# Altium footprint library PCB Library.PcbLib: 9 footprints
Each footprint in its own frame and in the unit in brackets; x right, y up, seen from the top. Pads: shape width x height; smd on the part's side, far side on the other; paste and mask are expansions set on the pad; w line width, h text height; cw(c..) or ccw(c..) is an arc to the next point about the centre after c.
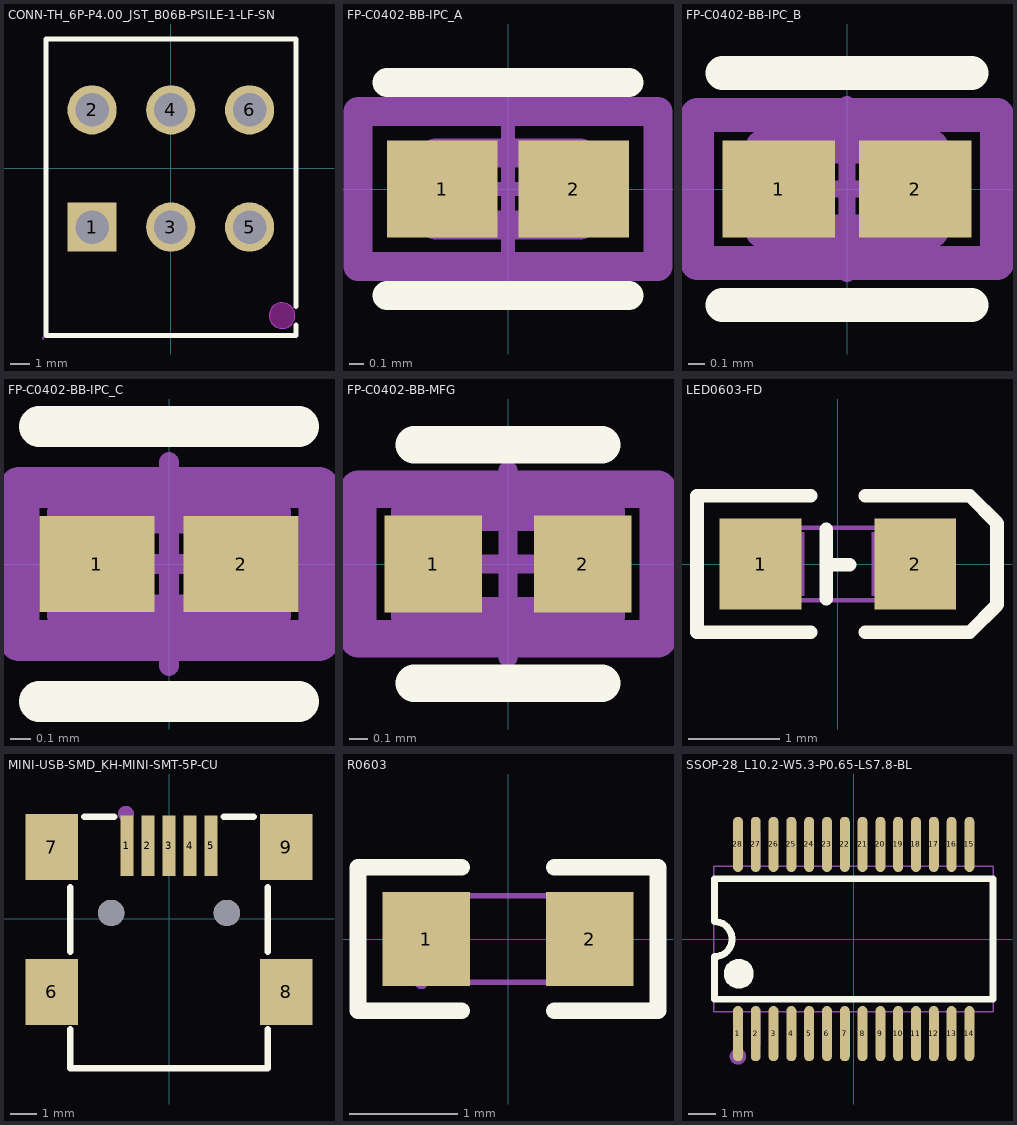
[diagram p0: the footprints below, top view; thin cyan lines are the x and y axes]

## CONN-TH_6P-P4.00_JST_B06B-PSILE-1-LF-SN [mm]
pads (6):
  rect 2.5x2.5 hole 1.7 paste-2539.97 mask+0.05: 1(-4,-2.975)
  round 2.5 hole 1.7 paste-2539.97 mask+0.05: 2(-4,2.975) 3(0,-2.975) 4(0,2.975) 5(4,-2.975) 6(4,2.975)
Top Overlay:
  lines w0.254: 6.35,-7.943 6.35,-8.475 -6.35,-8.475 -6.35,6.575 6.35,6.575 6.35,-7.007
Keep-Out Layer:
  board cut-out: 6.3,-7.475 6.3,-7.561 6.256,-7.726 6.17,-7.874 6.049,-7.995 5.901,-8.081 5.736,-8.125 5.564,-8.125 5.399,-8.081 5.251,-7.995 5.13,-7.874 5.044,-7.726 5,-7.561 5,-7.475 5,-7.39 5.044,-7.224 5.13,-7.076 5.251,-6.955 5.399,-6.869 5.564,-6.825 5.736,-6.825 5.901,-6.869 6.049,-6.955 6.17,-7.076 6.256,-7.224 6.3,-7.39 6.3,-7.475
Keep-Out Layer:
  circle w0.025: c5.65,-7.475 r0.65
  region: 6.3,-7.475 6.3,-7.561 6.256,-7.726 6.17,-7.874 6.049,-7.995 5.901,-8.081 5.736,-8.125 5.564,-8.125 5.399,-8.081 5.251,-7.995 5.13,-7.874 5.044,-7.726 5,-7.561 5,-7.475 5,-7.39 5.044,-7.224 5.13,-7.076 5.251,-6.955 5.399,-6.869 5.564,-6.825 5.736,-6.825 5.901,-6.869 6.049,-6.955 6.17,-7.076 6.256,-7.224 6.3,-7.39 6.3,-7.475
Mechanical 1:
  circle w0.025: c5.65,-7.475 r0.65
Mechanical 15:
  drawing of 7 lines, arcs and shapes, not listed

## FP-C0402-BB-IPC_A [mm]
pads (2):
  rect 0.765x0.672 smd paste+0 mask+0: 1(-0.454,0) 2(0.454,0)
Top Overlay:
  lines w0.2: -0.836,-0.736 0.836,-0.736 ; -0.836,0.736 0.836,0.736
Top Courtyard:
  lines w0.2: -1.036,-0.536 -1.036,0.536 1.036,0.536 1.036,-0.536 -1.036,-0.536
Top Assembly:
  lines w0.2: -1.036,-0.536 -1.036,0.536 1.036,0.536 1.036,-0.536 -1.036,-0.536
  text ".Designator" at 0,0.188 h1
Top 3D Body:
  lines w0.2: -0.5,-0.25 -0.5,0.25 0.5,0.25 0.5,-0.25 -0.5,-0.25
Top Component Center:
  lines w0.1: -0.5,0 0.5,0 ; 0,-0.5 0,0.5
3D body "Cap_Kemet_C0402C562J5RACTU_eec.STEP": height 0.25, standoff 0, extent -1.036,-0.536 1.036,0.536

## FP-C0402-BB-IPC_B [mm]
pads (2):
  rect 0.665x0.572 smd paste+0 mask+0: 1(-0.404,0) 2(0.404,0)
Top Overlay:
  lines w0.2: -0.736,-0.686 0.736,-0.686 ; -0.736,0.686 0.736,0.686
Top Courtyard:
  lines w0.2: -0.886,-0.436 0.886,-0.436 0.886,0.436 -0.886,0.436 -0.886,-0.436
Top Assembly:
  lines w0.2: -0.886,-0.436 0.886,-0.436 0.886,0.436 -0.886,0.436 -0.886,-0.436
  text ".Designator" at 0,0.188 h1
Top 3D Body:
  lines w0.2: -0.5,-0.25 0.5,-0.25 0.5,0.25 -0.5,0.25 -0.5,-0.25
Top Component Center:
  lines w0.1: -0.5,0 0.5,0 ; 0,-0.5 0,0.5
3D body "Cap_Kemet_C0402C562J5RACTU_eec.STEP": height 0.25, standoff 0, extent -0.886,-0.436 0.886,0.436

## FP-C0402-BB-IPC_C [mm]
pads (2):
  rect 0.565x0.472 smd paste+0 mask+0: 1(-0.354,0) 2(0.354,0)
Top Overlay:
  lines w0.2: -0.636,-0.675 0.636,-0.675 ; -0.636,0.675 0.636,0.675
Top Courtyard:
  lines w0.2: -0.736,-0.375 0.736,-0.375 0.736,0.375 -0.736,0.375 -0.736,-0.375
Top Assembly:
  lines w0.2: -0.736,-0.375 0.736,-0.375 0.736,0.375 -0.736,0.375 -0.736,-0.375
  text ".Designator" at 0,0.188 h1
Top 3D Body:
  lines w0.2: -0.5,-0.25 0.5,-0.25 0.5,0.25 -0.5,0.25 -0.5,-0.25
Top Component Center:
  lines w0.1: -0.5,0 0.5,0 ; 0,-0.5 0,0.5
3D body "Cap_Kemet_C0402C562J5RACTU_eec.STEP": height 0.25, standoff 0, extent -0.736,-0.375 0.736,0.375

## FP-C0402-BB-MFG [mm]
pads (2):
  rect 0.52x0.52 smd paste+0 mask+0: 1(-0.4,0) 2(0.4,0)
Top Overlay:
  lines w0.2: -0.5,-0.635 0.5,-0.635 ; -0.5,0.635 0.5,0.635
Top Courtyard:
  lines w0.2: -0.8,-0.4 -0.8,0.4 0.8,0.4 0.8,-0.4 -0.8,-0.4
Top Assembly:
  lines w0.2: -0.8,-0.4 -0.8,0.4 0.8,0.4 0.8,-0.4 -0.8,-0.4
  text ".Designator" at 0,0.188 h1
Top 3D Body:
  lines w0.2: -0.525,-0.275 -0.525,0.275 0.525,0.275 0.525,-0.275 -0.525,-0.275
Top Component Center:
  lines w0.1: -0.5,0 0.5,0 ; 0,-0.5 0,0.5
3D body "Cap_Kemet_C0402C562J5RACTU_eec.STEP": height 0.25, standoff 0, extent -0.8,-0.4 0.8,0.4

## LED0603-FD [mm]
pads (2):
  rect 0.9x1 smd: 1(-0.85,0) 2(0.85,0)
Top Overlay:
  lines w0.15: -1.55,-0.75 -0.3,-0.75 ; -1.55,-0.75 -1.55,0.73 ; -1.55,0.75 -0.3,0.75 ; -0.127,-0.381 -0.127,0.381 ; -0.127,-0.006 0.127,-0.006 ; 0.3,-0.75 1.45,-0.75 1.75,-0.45 1.75,-0.35 1.75,0.35 1.75,0.45 1.45,0.75 0.3,0.75
Mechanical 6:
  region: -1.1,0.1 -0.5,0.1 -0.5,-0.05 -1.1,-0.05
  region: 0.6,0.1 1.2,0.1 1.2,-0.05 0.6,-0.05
  region: -0.865,-0.273 -0.865,0.327 -0.715,0.327 -0.715,-0.273
Mechanical 15:
  region: -0.74,-0.4 -0.74,-0.425 -0.775,-0.46 -0.825,-0.46 -0.86,-0.425 -0.86,-0.4 -0.86,-0.375 -0.825,-0.34 -0.775,-0.34 -0.74,-0.375 -0.74,-0.4
  region: -0.8,-0.35 -0.8,0.35 -0.37,0.35 -0.37,-0.35
  region: 0.37,-0.35 0.37,0.35 0.8,0.35 0.8,-0.35
  lines w0.051: -0.8,-0.4 0.8,-0.4 0.8,0.4 -0.8,0.4 -0.8,-0.4

## MINI-USB-SMD_KH-MINI-SMT-5P-CU [mm]
pads (11):
  rect 0.5x2.3 smd paste+0 mask+0.05: 1(-1.6,2.775) 2(-0.8,2.775) 3(0,2.775) 4(0.8,2.775) 5(1.6,2.775)
  rect 2x2.5 smd paste+0 mask+0.05: 6(-4.45,-2.775) 7(-4.45,2.725) 8(4.45,-2.775) 9(4.45,2.725)
  round 1 hole 1 unplated paste-2539.97: ""(-2.2,0.225) ""(2.2,0.225)
Top Overlay:
  lines w0.254: -3.75,-4.206 -3.75,-5.675 3.75,-5.675 3.75,-4.206 ; -3.75,-1.244 -3.75,1.194 ; -3.219,3.885 -2.081,3.885 ; 2.081,3.885 3.219,3.885 ; 3.75,-1.244 3.75,1.194
Mechanical 15:
  circle w0.3: c-1.635,3.992 r0.15
  circle w0.4: c2.2,0.225 r0.2
  circle w0.4: c-2.2,0.225 r0.2

## R0603 [mm]
pads (2):
  rect 0.806x0.864 smd paste-100 mask+0.051: 1(-0.753,0) 2(0.753,0)
Top Overlay:
  lines w0.152: -0.426,-0.661 -1.385,-0.661 -1.385,0.661 -0.426,0.661 ; 0.426,-0.661 1.385,-0.661 1.385,0.661 0.426,0.661
Top Paste:
  region: -1.195,-0.45 -0.395,-0.45 -0.345,-0.4 -0.345,-0.172 -0.715,-0.172 -0.715,0.158 -0.345,0.158 -0.345,0.4 -0.395,0.45 -1.195,0.45 -1.245,0.4 -1.245,-0.4
  region: 1.195,0.45 0.395,0.45 0.345,0.4 0.345,0.172 0.715,0.172 0.715,-0.158 0.345,-0.158 0.345,-0.4 0.395,-0.45 1.195,-0.45 1.245,-0.4 1.245,0.4
Mechanical 15:
  region: 0.8,-0.4 0.8,0.4 0.5,0.4 0.5,-0.4
  region: -0.8,-0.4 -0.8,0.4 -0.5,0.4 -0.5,-0.4
  region: -0.74,-0.4 -0.74,-0.425 -0.775,-0.46 -0.825,-0.46 -0.86,-0.425 -0.86,-0.4 -0.86,-0.375 -0.825,-0.34 -0.775,-0.34 -0.74,-0.375 -0.74,-0.4
  lines w0.051: -0.8,-0.4 0.8,-0.4 0.8,0.4 -0.8,0.4 -0.8,-0.4

## SSOP-28_L10.2-W5.3-P0.65-LS7.8-BL [mm]
pads (28):
  oval 0.364x2.015 smd: 1(-4.225,-3.455) 2(-3.575,-3.455) 3(-2.925,-3.455) 4(-2.275,-3.455) 5(-1.625,-3.455) 6(-0.975,-3.455) 7(-0.325,-3.455) 8(0.325,-3.455) 9(0.975,-3.455) 10(1.625,-3.455) 11(2.275,-3.455) 12(2.925,-3.455) 13(3.575,-3.455) 14(4.225,-3.455) 15(4.225,3.455) 16(3.575,3.455) 17(2.925,3.455) 18(2.275,3.455) 19(1.625,3.455) 20(0.975,3.455) 21(0.325,3.455) 22(-0.325,3.455) 23(-0.975,3.455) 24(-1.625,3.455) 25(-2.275,3.455) 26(-2.925,3.455) 27(-3.575,3.455) 28(-4.225,3.455)
Top Overlay:
  region: -4.722,-1.27 -4.723,-1.164 -4.643,-0.967 -4.493,-0.817 -4.297,-0.735 -4.085,-0.735 -3.889,-0.817 -3.739,-0.967 -3.659,-1.164 -3.66,-1.27 -3.659,-1.376 -3.739,-1.573 -3.889,-1.723 -4.085,-1.805 -4.297,-1.805 -4.493,-1.723 -4.643,-1.573 -4.723,-1.376 -4.722,-1.27
  lines w0.254: 5.08,-2.2 -5.08,-2.2 -5.08,-0.644 ccw(c-5.08,-0.004) -5.08,0.635 -5.08,2.2 5.08,2.2 5.08,-2.159
Mechanical 6:
  circle w0.3: c-4.225,-4.285 r0.15
Mechanical 15:
  drawing of 61 lines, arcs and shapes, not listed